# Altium schematic symbol library MC2520Z.Schlib: 1 symbol
Pins are listed as number, name and electrical type; pins without a type are passive.

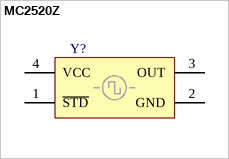
[diagram p0: symbol MC2520Z]

## MC2520Z
designator Y?
Oscillator
pins: 1 ~{STD}, 2 GND, 3 OUT, 4 VCC